# Altium schematic symbol library MICRF112YMM.SchLib: 2 symbols
Pins are listed as number, name and electrical type; pins without a type are passive.

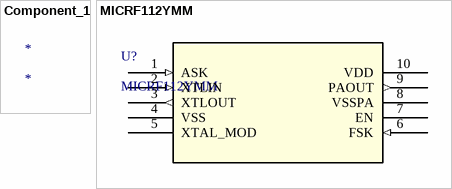
[diagram p0: symbols Component_1 to MICRF112YMM]

## Component_1
designator *

## MICRF112YMM
designator U?
No Description Available; Mfr_Name: Microchip; Copyright: Copyright (C) 2022 Ultra Librarian. All rights reserved.; Manufacturer_Part_Number: MICRF112YMM; RefDes: RefDes; Type: DEV
footprint MSOP10_MC_MCH
pins: 1 ASK (in), 2 XTLIN (in), 3 XTLOUT (out), 4 VSS (power), 5 XTAL_MOD, 6 FSK (in), 7 EN, 8 VSSPA (power), 9 PAOUT (out), 10 VDD (power)